# Altium footprint library SolarNode.PcbLib: 75 footprints (part 1 of 5)
Each footprint in its own frame and in the unit in brackets; x right, y up, seen from the top. Pads: shape width x height; smd on the part's side, far side on the other; paste and mask are expansions set on the pad; w line width, h text height; cw(c..) or ccw(c..) is an arc to the next point about the centre after c.
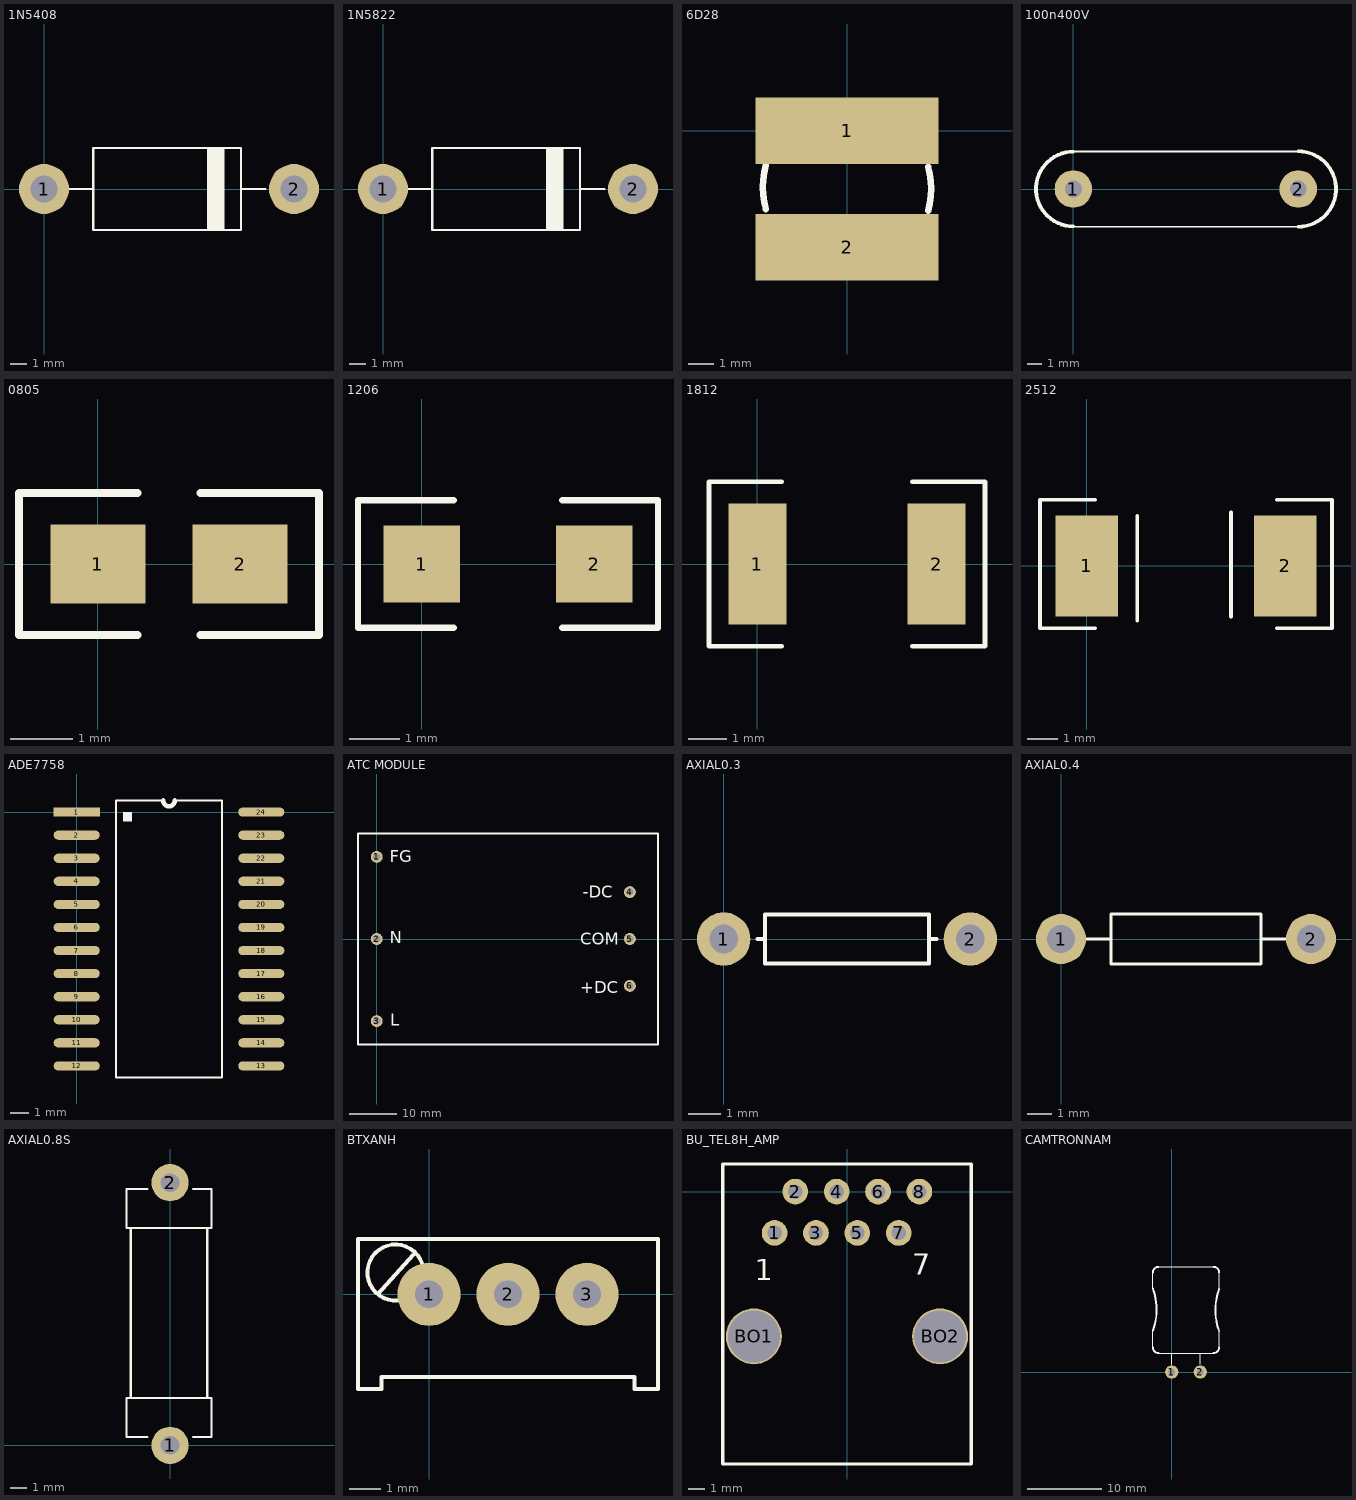
[diagram p0: the footprints below, top view; thin cyan lines are the x and y axes]

## 1N5408 [mil]
pads (2):
  round 120 hole 65: 1(0,0) 2(600,0)
Top Overlay:
  rectangle: 393.7,-98.43 433.07,98.43
  lines w5: 59.06,0 118.11,0 ; 393.7,-98.43 393.7,98.43 ; 472.44,0 531.5,0 ; 118.11,-98.42 118.11,98.42 472.44,98.42 472.44,-98.42 118.11,-98.42

## 1N5822 [mil]
pads (2):
  round 120 hole 65: 1(0,0) 2(600,0)
Top Overlay:
  rectangle: 393.7,-98.43 433.07,98.43
  lines w5: 59.06,0 118.11,0 ; 393.7,-98.43 393.7,98.43 ; 472.44,0 531.5,0 ; 118.11,-98.42 118.11,98.42 472.44,98.42 472.44,-98.42 118.11,-98.42

## 6D28 [mm] "inductor 6D28"
pads (2):
  rect 7.3x2.65 smd: 1(0,0) 2(0,-4.65)
Top Overlay:
  lines w0.254: -3.236,-1.381 ccw(c0,-2.247) -3.231,-3.133 ; 3.231,-1.439 cw(c0,-2.325) 3.236,-3.191

## 100n400V [mil]
pads (2):
  round 100 hole 45: 1(0,0) 2(600,0)
Top Overlay:
  lines w5: -5,-100 -4.38,-100.62 600,-100.62 ; 0,99.62 599,99.62 600,100.62
  lines w10: 0,-99.62 cw(c0,0) 0,99.62 ; 600,-100.62 ccw(c600,0) 600,100.62

## 0805 [mil]
pads (2):
  rect 60x50 smd: 1(0,0) 2(90,0)
Top Overlay:
  lines w5: 25,-45 -50,-45 -50,45 25,45 ; 65,-45 140,-45 140,45 65,45

## 1206 [mil]
pads (2):
  rect 60x60 smd: 1(0,0) 2(135,0)
Top Overlay:
  lines w5: 25,-50 -50,-50 -50,50 25,50 ; 110,-50 185,-50 185,50 110,50

## 1812 [mil]
pads (2):
  rect 60x125 smd: 1(0,0) 2(185,0)
Top Overlay:
  lines w5: 25,-85 -50,-85 -50,85 25,85 ; 160,-85 235,-85 235,85 160,85

## 2512 [mil]
pads (2):
  rect 80x130 smd: 1(0,0) 2(255,0)
Top Overlay:
  lines w5: 10.87,-80 -60,-80 -60,85 10.87,85 ; 65,-70 65,63.86 ; 185,-65 185,68.86 ; 244.13,-80 315,-80 315,85 244.13,85

## ADE7758 [mil]
pads (24):
  rect 100x20 smd: 1(0,0)
  oval 100x20 smd: 2(0,-50) 3(0,-100) 4(0,-150) 5(0,-200) 6(0,-250) 7(0,-300) 8(0,-350) 9(0,-400) 10(0,-450) 11(0,-500) 12(0,-550) 13(400,-550) 14(400,-500) 15(400,-450) 16(400,-400) 17(400,-350) 18(400,-300) 19(400,-250) 20(400,-200) 21(400,-150) 22(400,-100) 23(400,-50) 24(400,0)
Top Overlay:
  rectangle: 100,-20 120,0
  lines w5: 187.5,25 85,25 85,-575 315,-575 315,25 212.5,25
  lines w10: 187.5,25 ccw(c200,25) 212.5,25

## ATC MODULE [mm] "AC - DC convert module"
pads (6):
  round 2.54 hole 1.524: 1(0,17.5) 2(0,0) 3(0,-17.5) 4(54,10) 5(54,0) 6(54,-10)
Top Overlay:
  lines w0.508: -4,-22.5 -4,22.5 60,22.5 60,-22.5 -4,-22.5
  text "COM" at 43.434,-1.27 h2.54
  text "+DC" at 43.434,-11.557 h2.54
  text "-DC" at 43.942,8.763 h2.54
  text "L" at 2.921,-18.542 h2.54
  text "N" at 2.794,-0.889 h2.54
  text "FG" at 2.794,16.383 h2.54

## AXIAL0.3 [mil]
pads (2):
  round 65 hole 35: 1(0,0) 2(300,0)
Top Overlay:
  lines w5: 41,0 50,0 ; 259,0 250,0 ; 250,0 250,30 50,30 50,-30 250,-30 250,0

## AXIAL0.4 [mil]
pads (2):
  round 80 hole 45: 1(0,0) 2(400,0)
Top Overlay:
  lines w5: 40,0 80,0 ; 320,0 360,0 ; 80,-40 320,-40 320,40 80,40 80,-40

## AXIAL0.8S [mil]
pads (2):
  round 90 hole 45: 1(0,0) 2(0,635)
Top Overlay:
  lines w5: -55,20 -105,20 -105,115 -95,115 ; -55,620 -105,620 -105,525 -95,525 ; 55,20 100,20 100,115 90,115 ; 55,620 100,620 100,525 90,525 ; -95,115 90,115 ; -95,115 -95,525 ; -95,525 90,525 ; 90,115 90,525

## BTXANH [mil]
pads (3):
  round 80 hole 35: 1(0,0) 2(100,0) 3(200,0)
Top Overlay:
  lines w5: -65,0 -20,50 ; -39.77,-7.93 cw(c-42.5,27.5) -8.79,38.74 ; -90,-120 -60,-120 -60,-105 260,-105 260,-120 290,-120 290,-105 290,70 -90,70 -90,-105 -90,-120

## BU_TEL8H_AMP [mil]
pads (10):
  round 62 hole 35: 1(-175,-100) 2(-125,0) 3(-75,-100) 4(-25,0) 5(25,-100) 6(75,0) 7(125,-100) 8(175,0)
  round 135 hole 125: BO1(-225,-350) BO2(225,-350)
Top Overlay:
  lines w8: -300,-658.33 300,-658.33 300,66.67 -300,66.67 -300,-658.33
  text "7" at 157.45,-201.06 h50
  text "1" at -222.84,-214.13 h50

## CAMTRONNAM [mil]
pads (2):
  round 70 hole 35: 1(0,0) 2(150,0)
Top Overlay:
  lines w5: -100,130 -100,220 ; -100,440 -100,525 ; -70,100 220,100 ; -70,555 220,555 ; 0,40 0,100 ; 150,40 150,100 ; 250,130 250,215 ; 250,440 250,525
  lines w10: -100,130 ccw(c-70,130) -70,100 ; -100,440 cw(c-398.14,328.82) -99.24,219.72 ; -100,525 cw(c-70,525) -70,555 ; 220,100 ccw(c220,130) 250,130 ; 220,555 cw(c220,525) 250,525 ; 250,215 cw(c548.14,326.18) 250,437.35